# Altium integrated library STM32_.IntLib: 5 symbols
Pins are listed as number, name and electrical type; pins without a type are passive.

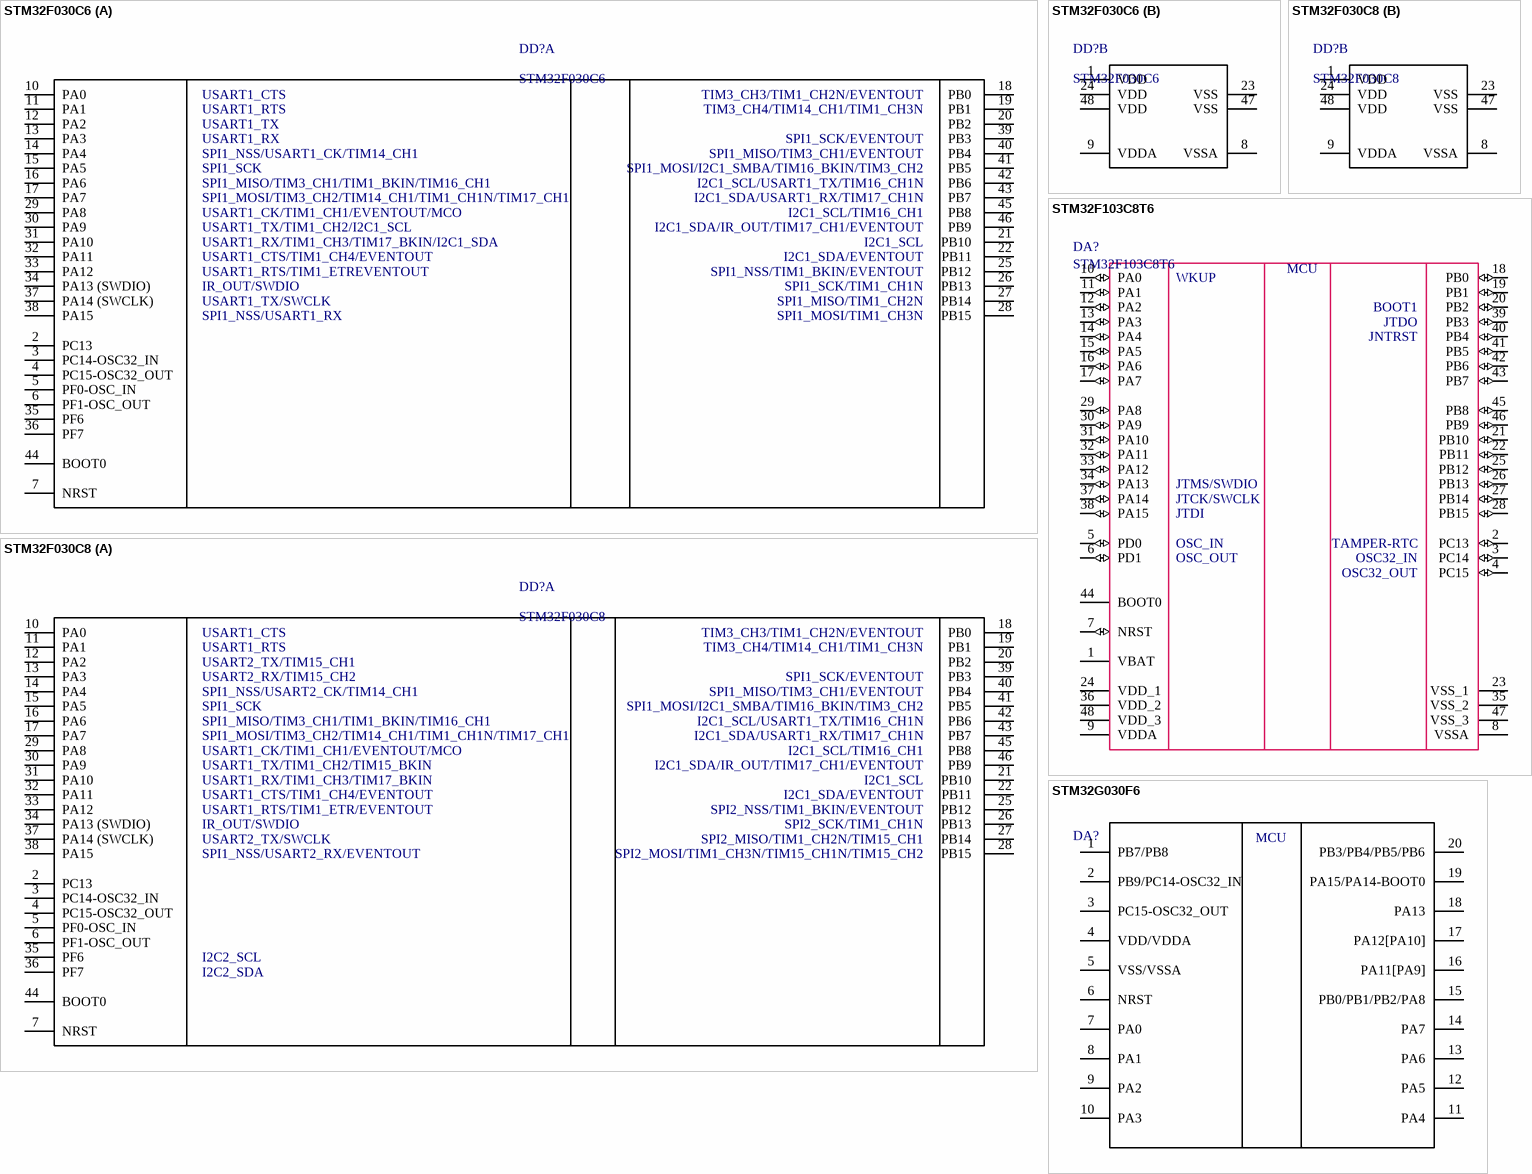
[diagram p0: symbols STM32F030C6 to STM32G030F6]

## STM32F030C6
designator DD?
footprint LQFP48_M (Thin QFP, 48-Leads, Body 7x7mm, Pitch 0.5mm, IPC Low Density)
part A pins: 2 PC13 , 3 PC14-OSC32_IN, 4 PC15-OSC32_OUT , 5 PF0-OSC_IN , 6 PF1-OSC_OUT , 7 NRST , 10 PA0 , 11 PA1 , 12 PA2 , 13 PA3 , 14 PA4 , 15 PA5 , 16 PA6 , 17 PA7 , 18 PB0 , 19 PB1 , 20 PB2 , 21 PB10 , 22 PB11 , 25 PB12 , 26 PB13 , 27 PB14 , 28 PB15 , 29 PA8 , 30 PA9 , 31 PA10 , 32 PA11 , 33 PA12 , 34 PA13 (SWDIO) , 35 PF6 , 36 PF7 , 37 PA14 (SWCLK) , 38 PA15 , 39 PB3 , 40 PB4 , 41 PB5 , 42 PB6 , 43 PB7 , 44 BOOT0 , 45 PB8 , 46 PB9 
part B pins: 1 VDD, 8 VSSA, 9 VDDA, 23 VSS, 24 VDD, 47 VSS, 48 VDD
part A text: USART1_CTS; TIM3_CH3/TIM1_CH2N/EVENTOUT; USART1_RTS; TIM3_CH4/TIM14_CH1/TIM1_CH3N; USART1_TX; USART1_RX; SPI1_SCK/EVENTOUT; SPI1_NSS/USART1_CK/TIM14_CH1; SPI1_MISO/TIM3_CH1/EVENTOUT; SPI1_SCK; SPI1_MOSI/I2C1_SMBA/TIM16_BKIN/TIM3_CH2; SPI1_MISO/TIM3_CH1/TIM1_BKIN/TIM16_CH1; I2C1_SCL/USART1_TX/TIM16_CH1N; SPI1_MOSI/TIM3_CH2/TIM14_CH1/TIM1_CH1N/TIM17_CH1; I2C1_SDA/USART1_RX/TIM17_CH1N; USART1_CK/TIM1_CH1/EVENTOUT/MCO; I2C1_SCL/TIM16_CH1; USART1_TX/TIM1_CH2/I2C1_SCL; I2C1_SDA/IR_OUT/TIM17_CH1/EVENTOUT; USART1_RX/TIM1_CH3/TIM17_BKIN/I2C1_SDA; I2C1_SCL; USART1_CTS/TIM1_CH4/EVENTOUT; I2C1_SDA/EVENTOUT; USART1_RTS/TIM1_ETREVENTOUT; SPI1_NSS/TIM1_BKIN/EVENTOUT; IR_OUT/SWDIO; SPI1_SCK/TIM1_CH1N; USART1_TX/SWCLK; SPI1_MISO/TIM1_CH2N; SPI1_NSS/USART1_RX; SPI1_MOSI/TIM1_CH3N

## STM32F030C8
designator DD?
footprint LQFP48_M (Thin QFP, 48-Leads, Body 7x7mm, Pitch 0.5mm, IPC Low Density)
part A pins: 2 PC13 , 3 PC14-OSC32_IN, 4 PC15-OSC32_OUT , 5 PF0-OSC_IN , 6 PF1-OSC_OUT , 7 NRST , 10 PA0 , 11 PA1 , 12 PA2 , 13 PA3 , 14 PA4 , 15 PA5 , 16 PA6 , 17 PA7 , 18 PB0 , 19 PB1 , 20 PB2 , 21 PB10 , 22 PB11 , 25 PB12 , 26 PB13 , 27 PB14 , 28 PB15 , 29 PA8 , 30 PA9 , 31 PA10 , 32 PA11 , 33 PA12 , 34 PA13 (SWDIO) , 35 PF6 , 36 PF7 , 37 PA14 (SWCLK) , 38 PA15 , 39 PB3 , 40 PB4 , 41 PB5 , 42 PB6 , 43 PB7 , 44 BOOT0 , 45 PB8 , 46 PB9 
part B pins: 1 VDD, 8 VSSA, 9 VDDA, 23 VSS, 24 VDD, 47 VSS, 48 VDD
part A text: USART1_CTS; TIM3_CH3/TIM1_CH2N/EVENTOUT; USART1_RTS; TIM3_CH4/TIM14_CH1/TIM1_CH3N; USART2_TX/TIM15_CH1; USART2_RX/TIM15_CH2; SPI1_SCK/EVENTOUT; SPI1_NSS/USART2_CK/TIM14_CH1; SPI1_MISO/TIM3_CH1/EVENTOUT; SPI1_SCK; SPI1_MOSI/I2C1_SMBA/TIM16_BKIN/TIM3_CH2; SPI1_MISO/TIM3_CH1/TIM1_BKIN/TIM16_CH1; I2C1_SCL/USART1_TX/TIM16_CH1N; SPI1_MOSI/TIM3_CH2/TIM14_CH1/TIM1_CH1N/TIM17_CH1; I2C1_SDA/USART1_RX/TIM17_CH1N; USART1_CK/TIM1_CH1/EVENTOUT/MCO; I2C1_SCL/TIM16_CH1; USART1_TX/TIM1_CH2/TIM15_BKIN; I2C1_SDA/IR_OUT/TIM17_CH1/EVENTOUT; USART1_RX/TIM1_CH3/TIM17_BKIN; I2C1_SCL; USART1_CTS/TIM1_CH4/EVENTOUT; I2C1_SDA/EVENTOUT; USART1_RTS/TIM1_ETR/EVENTOUT; SPI2_NSS/TIM1_BKIN/EVENTOUT; IR_OUT/SWDIO; SPI2_SCK/TIM1_CH1N; USART2_TX/SWCLK; SPI2_MISO/TIM1_CH2N/TIM15_CH1; SPI1_NSS/USART2_RX/EVENTOUT; SPI2_MOSI/TIM1_CH3N/TIM15_CH1N/TIM15_CH2; I2C2_SCL; I2C2_SDA

## STM32F103C8T6
designator DA?
footprint LQFP48_M (Thin QFP, 48-Leads, Body 7x7mm, Pitch 0.5mm, IPC Low Density)
pins: 1 VBAT (power), 2 PC13 (io), 3 PC14 (io), 4 PC15 (io), 5 PD0 (io), 6 PD1 (io), 7 NRST (io), 8 VSSA (power), 9 VDDA (power), 10 PA0 (io), 11 PA1 (io), 12 PA2 (io), 13 PA3 (io), 14 PA4 (io), 15 PA5 (io), 16 PA6 (io), 17 PA7 (io), 18 PB0 (io), 19 PB1 (io), 20 PB2 (io), 21 PB10 (io), 22 PB11 (io), 23 VSS_1 (power), 24 VDD_1 (power), 25 PB12 (io), 26 PB13 (io), 27 PB14 (io), 28 PB15 (io), 29 PA8 (io), 30 PA9 (io), 31 PA10 (io), 32 PA11 (io), 33 PA12 (io), 34 PA13 (io), 35 VSS_2 (power), 36 VDD_2 (power), 37 PA14 (io), 38 PA15 (io), 39 PB3 (io), 40 PB4 (io), 41 PB5 (io), 42 PB6 (io), 43 PB7 (io), 44 BOOT0, 45 PB8 (io), 46 PB9 (io), 47 VSS_3 (power), 48 VDD_3 (power)
text: WKUP; MCU; BOOT1; JTDO; JNTRST; JTMS/SWDIO; JTCK/SWCLK; JTDI; OSC_IN; TAMPER-RTC; OSC_OUT; OSC32_IN; OSC32_OUT

## STM32G030F6
designator DA?, comment STM32G030F6P6  (value not drawn)
Manufacturer: STMicroelectronics; Rem: *; Package: TSSOP-20; Value: *; Tolerance: *; Power/Voltage: *; TKE: *; ManufacturerPartNumber: STM32G030F6P6; Quantity: *; Примечание: *
footprint TSSOP_20
pins: 1 PB7/PB8, 2 PB9/PC14-OSC32_IN, 3 PC15-OSC32_OUT, 4 VDD/VDDA, 5 VSS/VSSA, 6 NRST, 7 PA0, 8 PA1, 9 PA2, 10 PA3, 11 PA4, 12 PA5, 13 PA6, 14 PA7, 15 PB0/PB1/PB2/PA8, 16 PA11[PA9], 17 PA12[PA10], 18 PA13, 19 PA15/PA14-BOOT0, 20 PB3/PB4/PB5/PB6
text: MCU

## РЫБА
designator R?  (value not drawn)
Rem: *; Package: *; Value: *; Tolerance: *; Power/Voltage: *; TKE: *; ManufacturerPartNumber: *; Manufacturer: *; Quantity: *; Примечание: *